# Altium footprint library RFID_PcbLib.PcbLib: 23 footprints (part 1 of 2)
Each footprint in its own frame and in the unit in brackets; x right, y up, seen from the top. Pads: shape width x height; smd on the part's side, far side on the other; paste and mask are expansions set on the pad; w line width, h text height; cw(c..) or ccw(c..) is an arc to the next point about the centre after c.
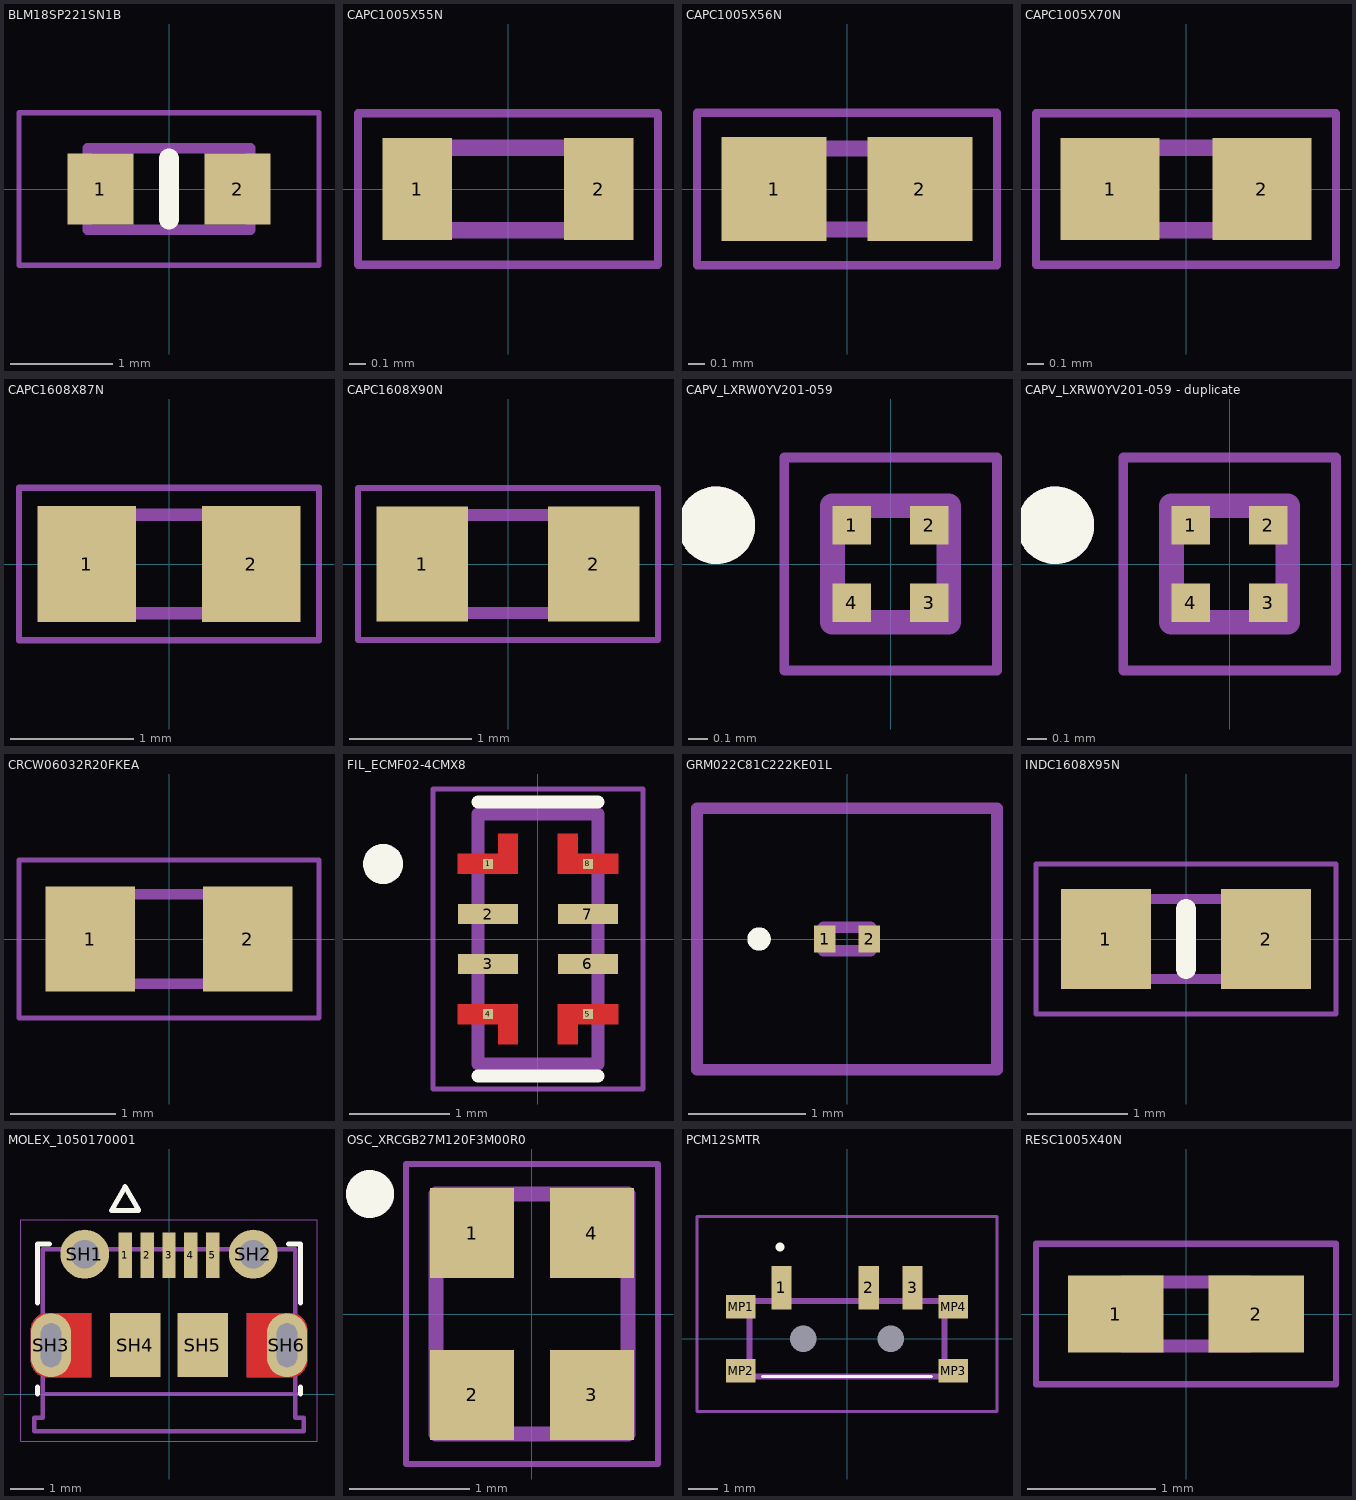
[diagram p0: the footprints below, top view; thin cyan lines are the x and y axes]

## BLM18SP221SN1B [mm]
pads (2):
  rect 0.65x0.7 smd: 1(-0.675,0) 2(0.675,0)
Top Overlay:
  lines w0.2: 0,-0.3 0,0.3
Mechanical 13:
  lines w0.1: -0.8,-0.4 0.8,-0.4 0.8,0.4 -0.8,0.4 -0.8,-0.4
Mechanical 15:
  lines w0.05: -1.475,-0.75 1.475,-0.75 1.475,0.75 -1.475,0.75 -1.475,-0.75
3D body "BLM18EG471SN1D.stp": height 0.8, standoff 0, extent -0.8,-0.4 0.8,0.4

## CAPC1005X55N [mm]
pads (2):
  rect 0.42x0.62 smd: 1(-0.55,0) 2(0.55,0)
Mechanical 13:
  lines w0.1: -0.5,-0.25 0.5,-0.25 0.5,0.25 -0.5,0.25 -0.5,-0.25
Mechanical 15:
  lines w0.05: -0.91,-0.46 0.91,-0.46 0.91,0.46 -0.91,0.46 -0.91,-0.46
3D body "C1005X5R0J475K050BC.stp": height 0.25, standoff -0.25, extent 0,-0.25 1,0.25

## CAPC1005X56N [mm]
pads (2):
  rect 0.65x0.64 smd: 1(-0.45,0) 2(0.45,0)
Mechanical 13:
  lines w0.1: -0.5,-0.25 -0.5,0.25 0.5,0.25 0.5,-0.25 -0.5,-0.25
Mechanical 15:
  lines w0.05: -0.925,-0.47 -0.925,0.47 0.925,0.47 0.925,-0.47 -0.925,-0.47
3D body "04023C103KAT2A.stp": height 0.56, standoff 0, extent -0.5,-0.25 0.5,0.25

## CAPC1005X70N [mm]
pads (2):
  rect 0.6x0.62 smd: 1(-0.46,0) 2(0.46,0)
Mechanical 13:
  lines w0.1: -0.5,-0.25 0.5,-0.25 0.5,0.25 -0.5,0.25 -0.5,-0.25
Mechanical 15:
  lines w0.05: -0.91,-0.46 0.91,-0.46 0.91,0.46 -0.91,0.46 -0.91,-0.46
3D body "GRM1555C1H221FA01D.stp": height 0.25, standoff -0.25, extent -0.5,-0.25 0.5,0.25

## CAPC1608X87N [mm]
pads (2):
  rect 0.8x0.94 smd: 1(-0.67,0) 2(0.67,0)
Mechanical 13:
  lines w0.1: -0.8,-0.4 0.8,-0.4 0.8,0.4 -0.8,0.4 -0.8,-0.4
Mechanical 15:
  lines w0.05: -1.22,-0.62 1.22,-0.62 1.22,0.62 -1.22,0.62 -1.22,-0.62
3D body "MC0603N100F500CT.stp": height 0.87, standoff 0, extent -0.8,-0.4 0.8,0.4

## CAPC1608X90N [mm]
pads (2):
  rect 0.75x0.94 smd: 1(-0.7,0) 2(0.7,0)
Mechanical 13:
  lines w0.1: -0.8,-0.4 0.8,-0.4 0.8,0.4 -0.8,0.4 -0.8,-0.4
Mechanical 15:
  lines w0.05: -1.225,-0.62 1.225,-0.62 1.225,0.62 -1.225,0.62 -1.225,-0.62
3D body "GRM1885C1H121GA01D.stp": height 0.8, standoff 0, extent -0.8,-0.45 0.8,0.45

## CAPV_LXRW0YV201-059 [mm]
height 0.3
pads (4):
  rect 0.2x0.2 smd mask+0.05: 1(-0.2,0.2) 2(0.2,0.2) 3(0.2,-0.2) 4(-0.2,-0.2)
Top Overlay:
  circle w0.2: c-0.9,0.2 r0.1
Mechanical 13:
  circle w0.2: c-0.9,0.2 r0.1
  lines w0.127: -0.3,-0.3 -0.3,0.3 0.3,0.3 0.3,-0.3 -0.3,-0.3
Mechanical 15:
  lines w0.05: -0.55,-0.55 0.55,-0.55 0.55,0.55 -0.55,0.55 -0.55,-0.55

## CAPV_LXRW0YV201-059 - duplicate [mm]
height 0.3
pads (4):
  rect 0.2x0.2 smd mask+0.05: 1(-0.2,0.2) 2(0.2,0.2) 3(0.2,-0.2) 4(-0.2,-0.2)
Top Overlay:
  circle w0.2: c-0.9,0.2 r0.1
Mechanical 13:
  circle w0.2: c-0.9,0.2 r0.1
  lines w0.127: -0.3,-0.3 0.3,-0.3 0.3,0.3 -0.3,0.3 -0.3,-0.3
Mechanical 15:
  lines w0.05: -0.55,-0.55 -0.55,0.55 0.55,0.55 0.55,-0.55 -0.55,-0.55

## CRCW06032R20FKEA [mm]
pads (2):
  rect 0.85x1 smd: 1(-0.75,0) 2(0.75,0)
Mechanical 13:
  lines w0.1: -0.788,-0.425 0.788,-0.425 0.788,0.425 -0.788,0.425 -0.788,-0.425
Mechanical 15:
  lines w0.05: -1.425,-0.75 1.425,-0.75 1.425,0.75 -1.425,0.75 -1.425,-0.75
3D body "CRCW06032R20FKEA.stp": height 0.45, standoff 0, extent -0.77,-0.43 0.78,0.42

## FIL_ECMF02-4CMX8 [mm]
height 0.6
pads (8):
  rect 0.1x0.1 smd paste-1 mask+0: 1(-0.5,0.75) 4(-0.5,-0.75) 5(0.5,-0.75) 8(0.5,0.75)
  rect 0.6x0.2 smd: 2(-0.5,0.25) 3(-0.5,-0.25) 6(0.5,-0.25) 7(0.5,0.25)
Top Layer:
  region: 0.8,-0.85 0.4,-0.85 0.4,-1.05 0.2,-1.05 0.2,-0.65 0.8,-0.65
  region: -0.2,-1.05 -0.4,-1.05 -0.4,-0.85 -0.8,-0.85 -0.8,-0.65 -0.2,-0.65
  region: 0.4,0.85 0.8,0.85 0.8,0.65 0.2,0.65 0.2,1.05 0.4,1.05
  region: -0.2,0.65 -0.8,0.65 -0.8,0.85 -0.4,0.85 -0.4,1.05 -0.2,1.05
Top Overlay:
  circle w0.2: c-1.55,0.75 r0.1
  lines w0.127: -0.6,-1.37 0.6,-1.37 ; -0.6,1.37 0.6,1.37
Top Paste:
  region: 0.4,0.85 0.8,0.85 0.8,0.65 0.2,0.65 0.2,1.05 0.4,1.05
  region: -0.2,0.65 -0.8,0.65 -0.8,0.85 -0.4,0.85 -0.4,1.05 -0.2,1.05
  region: 0.8,-0.85 0.4,-0.85 0.4,-1.05 0.2,-1.05 0.2,-0.65 0.8,-0.65
  region: -0.2,-1.05 -0.4,-1.05 -0.4,-0.85 -0.8,-0.85 -0.8,-0.65 -0.2,-0.65
Top Solder:
  region: 0.9,-0.95 0.5,-0.95 0.5,-1.15 0.1,-1.15 0.1,-0.55 0.9,-0.55
  region: -0.1,-1.15 -0.5,-1.15 -0.5,-0.95 -0.9,-0.95 -0.9,-0.55 -0.1,-0.55
  region: 0.5,0.95 0.9,0.95 0.9,0.55 0.1,0.55 0.1,1.15 0.5,1.15
  region: -0.1,0.55 -0.9,0.55 -0.9,0.95 -0.5,0.95 -0.5,1.15 -0.1,1.15
Mechanical 13:
  circle w0.2: c-1.55,0.75 r0.1
  lines w0.127: -0.6,-1.25 -0.6,1.25 0.6,1.25 0.6,-1.25 -0.6,-1.25
Mechanical 15:
  lines w0.05: -1.05,-1.5 1.05,-1.5 1.05,1.5 -1.05,1.5 -1.05,-1.5
3D body "step_temp.STEP": height 0.6, standoff 0, extent -0.6,-1.25 0.6,1.25

## GRM022C81C222KE01L [mm]
pads (2):
  rect 0.18x0.23 smd: 1(-0.19,0) 2(0.19,0)
Top Overlay:
  lines w0.1: -0.8,0 cw(c-0.75,0) -0.7,0 cw(c-0.75,0) -0.8,0
Mechanical 13:
  lines w0.1: -0.2,-0.1 -0.2,0.1 0.2,0.1 0.2,-0.1 -0.2,-0.1
Mechanical 15:
  lines w0.1: -1.28,-1.115 -1.28,1.115 1.28,1.115 1.28,-1.115 -1.28,-1.115
3D body "GRM0225C1E4R3BA03L.stp": height 0.2, standoff 0, extent -0.2,-0.1 0.2,0.1

## INDC1608X95N [mm]
pads (2):
  rect 0.9x1 smd: 1(-0.8,0) 2(0.8,0)
Top Overlay:
  lines w0.2: 0,-0.3 0,0.3
Mechanical 13:
  lines w0.1: -0.8,-0.4 -0.8,0.4 0.8,0.4 0.8,-0.4 -0.8,-0.4
Mechanical 15:
  lines w0.05: -1.5,-0.75 -1.5,0.75 1.5,0.75 1.5,-0.75 -1.5,-0.75
3D body "MLJ1608WR27JT000.stp": height 0.95, standoff 0, extent -0.8,-0.4 0.8,0.4

## MOLEX_1050170001 [mm]
height 2.85
pads (11):
  rect 0.4x1.35 smd mask+0.064: 1(-1.3,4.125) 2(-0.65,4.125) 3(0,4.125) 4(0.65,4.125) 5(1.3,4.125)
  round 1.45 hole 0.85 mask+0.064: SH1(-2.5,4.15) SH2(2.5,4.15)
  oval 1.2x1.9 hole 0.6 slot 1.3 at 90 deg mask+0: SH3(-3.5,1.45) SH6(3.5,1.45)
  rect 1.5x1.9 smd mask+0.064: SH4(-1,1.45) SH5(1,1.45)
Top Layer:
  region: -2.3,0.5 -3.6,0.5 -3.626,0.501 -3.652,0.503 -3.678,0.506 -3.704,0.511 -3.729,0.517 -3.755,0.524 -3.779,0.533 -3.803,0.543 -3.827,0.554 -3.85,0.567 -3.872,0.581 -3.894,0.595 -3.915,0.611 -3.935,0.628 -3.954,0.646 -3.972,0.665 -3.989,0.685 -4.005,0.706 -4.019,0.728 -4.033,0.75 -4.046,0.773 -4.057,0.797 -4.067,0.821 -4.076,0.845 -4.083,0.871 -4.089,0.896 -4.094,0.922 -4.097,0.948 -4.099,0.974 -4.1,1 -4.1,1.9 -4.099,1.926 -4.097,1.952 -4.094,1.978 -4.089,2.004 -4.083,2.029 -4.076,2.055 -4.067,2.079 -4.057,2.103 -4.046,2.127 -4.033,2.15 -4.019,2.172 -4.005,2.194 -3.989,2.215 -3.972,2.235 -3.954,2.254 -3.935,2.272 -3.915,2.289 -3.894,2.305 -3.872,2.319 -3.85,2.333 -3.827,2.346 -3.803,2.357 -3.779,2.367 -3.755,2.376 -3.729,2.383 -3.704,2.389 -3.678,2.394 -3.652,2.397 -3.626,2.399 -3.6,2.4 -2.3,2.4
  region: 3.626,2.399 3.652,2.397 3.678,2.394 3.704,2.389 3.729,2.383 3.755,2.376 3.779,2.367 3.803,2.357 3.827,2.346 3.85,2.333 3.872,2.319 3.894,2.305 3.915,2.289 3.935,2.272 3.954,2.254 3.972,2.235 3.989,2.215 4.005,2.194 4.019,2.172 4.033,2.15 4.046,2.127 4.057,2.103 4.067,2.079 4.076,2.055 4.083,2.029 4.089,2.004 4.094,1.978 4.097,1.952 4.099,1.926 4.1,1.9 4.1,1 4.099,0.974 4.097,0.948 4.094,0.922 4.089,0.896 4.083,0.871 4.076,0.845 4.067,0.821 4.057,0.797 4.046,0.773 4.033,0.75 4.019,0.728 4.005,0.706 3.989,0.685 3.972,0.665 3.954,0.646 3.935,0.628 3.915,0.611 3.894,0.595 3.872,0.581 3.85,0.567 3.827,0.554 3.803,0.543 3.779,0.533 3.755,0.524 3.729,0.517 3.704,0.511 3.678,0.506 3.652,0.503 3.626,0.501 3.6,0.5 2.3,0.5 2.3,2.4 3.6,2.4
Bottom Layer:
  region: 3.626,2.399 3.652,2.397 3.678,2.394 3.704,2.389 3.729,2.383 3.755,2.376 3.779,2.367 3.803,2.357 3.827,2.346 3.85,2.333 3.872,2.319 3.894,2.305 3.915,2.289 3.935,2.272 3.954,2.254 3.972,2.235 3.989,2.215 4.005,2.194 4.019,2.172 4.033,2.15 4.046,2.127 4.057,2.103 4.067,2.079 4.076,2.055 4.083,2.029 4.089,2.004 4.094,1.978 4.097,1.952 4.099,1.926 4.1,1.9 4.1,1 4.099,0.974 4.097,0.948 4.094,0.922 4.089,0.896 4.083,0.871 4.076,0.845 4.067,0.821 4.057,0.797 4.046,0.773 4.033,0.75 4.019,0.728 4.005,0.706 3.989,0.685 3.972,0.665 3.954,0.646 3.935,0.628 3.915,0.611 3.894,0.595 3.872,0.581 3.85,0.567 3.827,0.554 3.803,0.543 3.779,0.533 3.755,0.524 3.729,0.517 3.704,0.511 3.678,0.506 3.652,0.503 3.626,0.501 3.6,0.5 2.3,0.5 2.3,2.4 3.6,2.4
  region: -2.3,0.5 -3.6,0.5 -3.626,0.501 -3.652,0.503 -3.678,0.506 -3.704,0.511 -3.729,0.517 -3.755,0.524 -3.779,0.533 -3.803,0.543 -3.827,0.554 -3.85,0.567 -3.872,0.581 -3.894,0.595 -3.915,0.611 -3.935,0.628 -3.954,0.646 -3.972,0.665 -3.989,0.685 -4.005,0.706 -4.019,0.728 -4.033,0.75 -4.046,0.773 -4.057,0.797 -4.067,0.821 -4.076,0.845 -4.083,0.871 -4.089,0.896 -4.094,0.922 -4.097,0.948 -4.099,0.974 -4.1,1 -4.1,1.9 -4.099,1.926 -4.097,1.952 -4.094,1.978 -4.089,2.004 -4.083,2.029 -4.076,2.055 -4.067,2.079 -4.057,2.103 -4.046,2.127 -4.033,2.15 -4.019,2.172 -4.005,2.194 -3.989,2.215 -3.972,2.235 -3.954,2.254 -3.935,2.272 -3.915,2.289 -3.894,2.305 -3.872,2.319 -3.85,2.333 -3.827,2.346 -3.803,2.357 -3.779,2.367 -3.755,2.376 -3.729,2.383 -3.704,2.389 -3.678,2.394 -3.652,2.397 -3.626,2.399 -3.6,2.4 -2.3,2.4
Top Overlay:
  lines w0.15: -3.9,2.7 -3.9,4.45 -3.55,4.45 ; 3.55,4.45 3.9,4.45 3.9,2.7 ; -1.7,5.45 -0.9,5.45 -1.3,6.15 -1.7,5.45
  lines w0.152: -3.9,0 -3.9,0.2 ; 3.9,0 3.9,0.2
Top Solder:
  region: -2.236,0.436 -2.237,0.436 -3.6,0.436 -3.629,0.437 -3.659,0.44 -3.688,0.443 -3.717,0.449 -3.746,0.456 -3.774,0.464 -3.802,0.474 -3.829,0.485 -3.856,0.498 -3.882,0.512 -3.907,0.527 -3.931,0.544 -3.955,0.562 -3.977,0.581 -3.998,0.602 -4.019,0.623 -4.038,0.645 -4.056,0.669 -4.073,0.693 -4.088,0.718 -4.102,0.744 -4.115,0.771 -4.126,0.798 -4.136,0.826 -4.144,0.854 -4.151,0.883 -4.157,0.912 -4.16,0.941 -4.163,0.971 -4.163,1 -4.163,1.9 -4.163,1.929 -4.16,1.959 -4.157,1.988 -4.151,2.017 -4.144,2.046 -4.136,2.074 -4.126,2.102 -4.115,2.129 -4.102,2.156 -4.088,2.182 -4.073,2.207 -4.056,2.231 -4.038,2.255 -4.019,2.277 -3.998,2.298 -3.977,2.319 -3.955,2.338 -3.931,2.356 -3.907,2.373 -3.882,2.388 -3.856,2.402 -3.829,2.415 -3.802,2.426 -3.774,2.436 -3.746,2.444 -3.717,2.451 -3.688,2.457 -3.659,2.46 -3.629,2.463 -2.236,2.463
  region: 3.659,2.46 3.688,2.457 3.717,2.451 3.746,2.444 3.774,2.436 3.802,2.426 3.829,2.415 3.856,2.402 3.882,2.388 3.907,2.373 3.931,2.356 3.955,2.338 3.977,2.319 3.998,2.298 4.019,2.277 4.038,2.255 4.056,2.231 4.073,2.207 4.088,2.182 4.102,2.156 4.115,2.129 4.126,2.102 4.136,2.074 4.144,2.046 4.151,2.017 4.157,1.988 4.16,1.959 4.163,1.929 4.163,1.9 4.163,1 4.163,0.971 4.16,0.941 4.157,0.912 4.151,0.883 4.144,0.854 4.136,0.826 4.126,0.798 4.115,0.771 4.102,0.744 4.088,0.718 4.073,0.693 4.056,0.669 4.038,0.645 4.019,0.623 3.998,0.602 3.977,0.581 3.955,0.562 3.931,0.544 3.907,0.527 3.882,0.512 3.856,0.498 3.829,0.485 3.802,0.474 3.774,0.464 3.746,0.456 3.717,0.449 3.688,0.443 3.659,0.44 3.629,0.437 3.6,0.436 2.237,0.436 2.236,0.436 2.236,2.463 3.629,2.463
Bottom Solder:
  region: 3.659,2.46 3.688,2.457 3.717,2.451 3.746,2.444 3.774,2.436 3.802,2.426 3.829,2.415 3.856,2.402 3.882,2.388 3.907,2.373 3.931,2.356 3.955,2.338 3.977,2.319 3.998,2.298 4.019,2.277 4.038,2.255 4.056,2.231 4.073,2.207 4.088,2.182 4.102,2.156 4.115,2.129 4.126,2.102 4.136,2.074 4.144,2.046 4.151,2.017 4.157,1.988 4.16,1.959 4.163,1.929 4.163,1.9 4.163,1 4.163,0.971 4.16,0.941 4.157,0.912 4.151,0.883 4.144,0.854 4.136,0.826 4.126,0.798 4.115,0.771 4.102,0.744 4.088,0.718 4.073,0.693 4.056,0.669 4.038,0.645 4.019,0.623 3.998,0.602 3.977,0.581 3.955,0.562 3.931,0.544 3.907,0.527 3.882,0.512 3.856,0.498 3.829,0.485 3.802,0.474 3.774,0.464 3.746,0.456 3.717,0.449 3.688,0.443 3.659,0.44 3.629,0.437 3.6,0.436 2.237,0.436 2.236,0.436 2.236,2.463 3.629,2.463
  region: -2.236,0.436 -2.237,0.436 -3.6,0.436 -3.629,0.437 -3.659,0.44 -3.688,0.443 -3.717,0.449 -3.746,0.456 -3.774,0.464 -3.802,0.474 -3.829,0.485 -3.856,0.498 -3.882,0.512 -3.907,0.527 -3.931,0.544 -3.955,0.562 -3.977,0.581 -3.998,0.602 -4.019,0.623 -4.038,0.645 -4.056,0.669 -4.073,0.693 -4.088,0.718 -4.102,0.744 -4.115,0.771 -4.126,0.798 -4.136,0.826 -4.144,0.854 -4.151,0.883 -4.157,0.912 -4.16,0.941 -4.163,0.971 -4.163,1 -4.163,1.9 -4.163,1.929 -4.16,1.959 -4.157,1.988 -4.151,2.017 -4.144,2.046 -4.136,2.074 -4.126,2.102 -4.115,2.129 -4.102,2.156 -4.088,2.182 -4.073,2.207 -4.056,2.231 -4.038,2.255 -4.019,2.277 -3.998,2.298 -3.977,2.319 -3.955,2.338 -3.931,2.356 -3.907,2.373 -3.882,2.388 -3.856,2.402 -3.829,2.415 -3.802,2.426 -3.774,2.436 -3.746,2.444 -3.717,2.451 -3.688,2.457 -3.659,2.46 -3.629,2.463 -2.236,2.463
Mechanical 13:
  lines w0.13: 3.81,0 -3.75,0 ; -3.75,0 -3.75,4.3 3.75,4.3 3.75,-0.7 4,-0.7 4,-1.1 -4,-1.1 -4,-0.7 -3.75,-0.7 -3.75,0 ; -1.7,5.45 -0.9,5.45 -1.3,6.15 -1.7,5.45
Mechanical 15:
  lines w0.01: -4.4,-1.4 -4.4,5.175 4.4,5.175 4.4,-1.4 -4.4,-1.4

## OSC_XRCGB27M120F3M00R0 [mm]
pads (4):
  rect 0.7x0.75 smd: 1(-0.5,0.675) 2(-0.5,-0.675) 3(0.5,-0.675) 4(0.5,0.675)
Top Overlay:
  circle w0.2: c-1.35,1 r0.1
Mechanical 13:
  circle w0.2: c-1.35,1 r0.1
  lines w0.127: -0.8,-1 -0.8,1 0.8,1 0.8,-1 -0.8,-1
Mechanical 15:
  lines w0.05: -1.05,-1.25 -1.05,1.25 1.05,1.25 1.05,-1.25 -1.05,-1.25
3D body "step_temp.STEP": height 0.7, standoff 0, extent -0.8,-1 0.8,1

## PCM12SMTR [mm]
pads (9):
  rect 0.7x1.5 smd: 1(-2.25,1.75) 2(0.75,1.75) 3(2.25,1.75)
  round 0.45 hole 0.9 unplated: MH1(-1.5,0) MH2(1.5,0)
  rect 1x0.8 smd: MP1(-3.65,1.1) MP2(-3.65,-1.1) MP3(3.65,-1.1) MP4(3.65,1.1)
Top Overlay:
  lines w0.1: -2.9,-1.3 2.9,-1.3
  lines w0.2: -2.3,3.1 cw(c-2.3,3.15) -2.3,3.2 ; -2.3,3.1 ccw(c-2.3,3.15) -2.3,3.2 ; -2.3,3.1 cw(c-2.3,3.15) -2.3,3.2
Mechanical 13:
  lines w0.2: -3.35,-1.3 -3.35,1.3 3.35,1.3 3.35,-1.3 -3.35,-1.3
Mechanical 15:
  lines w0.1: -5.15,-2.5 -5.15,4.2 5.15,4.2 5.15,-2.5 -5.15,-2.5
3D body "PCM12SMTR.stp": height 1.41, standoff -0.49, extent -3.85,-2.84 3.85,2.16

## RESC1005X40N [mm]
pads (2):
  rect 0.75x0.6 smd: 1(-0.55,0) 2(0.55,0)
Mechanical 13:
  lines w0.1: -0.5,-0.25 -0.5,0.25 0.5,0.25 0.5,-0.25 -0.5,-0.25
Mechanical 15:
  lines w0.05: -1.175,-0.55 -1.175,0.55 1.175,0.55 1.175,-0.55 -1.175,-0.55
3D body "MC00625W040210R.stp": height 0.4, standoff 0, extent -0.5,-0.25 0.5,0.25